# EAGLE library part HDC1000 (library 1)
HDC1000 Integrated Low Power Humidity and Temperature Digital Sensor
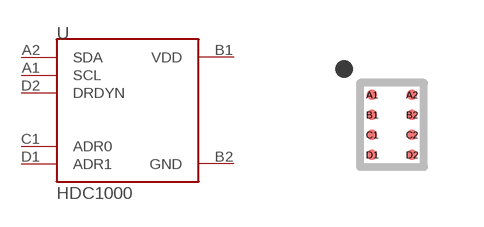
[diagram p56: symbol with the pads of DSBGA_8B_2X1.6; footprint DSBGA_8B_2X1.6]

Designator prefix U

## HDC1000  [DSBGA_8B_2X1.6]
A1  SCL
A2  SDA
B1  VDD
B2  GND
C1  ADR0
D1  ADR1
D2  DRDYN

## Footprint DSBGA_8B_2X1.6 (pad centres in mm)
DSGBA (8-bump) 2.04mmx1.59mm
smd 0.263 x 0.263: A1 -0.5,0.75; A2 0.5,0.75; B1 -0.5,0.25; B2 0.5,0.25; C1 -0.5,-0.25; C2 0.5,-0.25; D1 -0.5,-0.75; D2 0.5,-0.75